# Altium footprint library diode.PcbLib: 13 footprints
Each footprint in its own frame and in the unit in brackets; x right, y up, seen from the top. Pads: shape width x height; smd on the part's side, far side on the other; paste and mask are expansions set on the pad; w line width, h text height; cw(c..) or ccw(c..) is an arc to the next point about the centre after c.
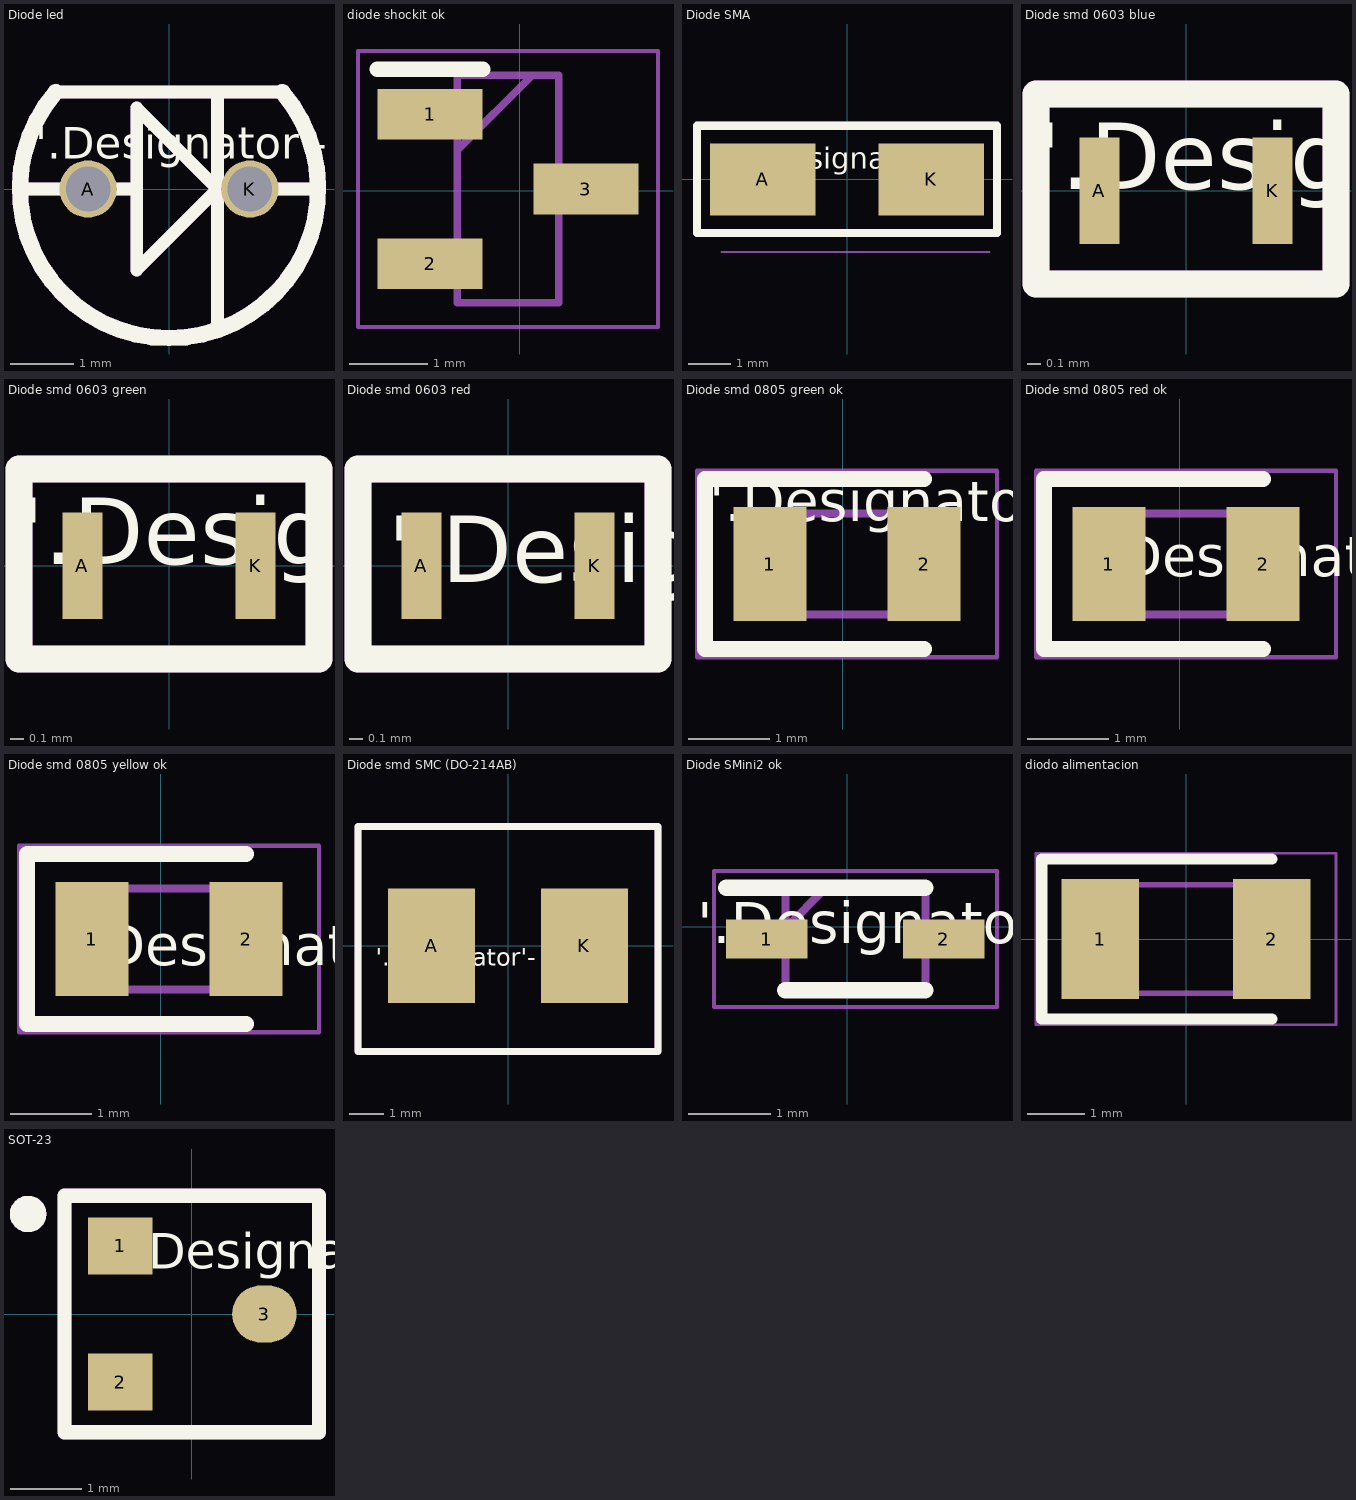
[diagram p0: the footprints below, top view; thin cyan lines are the x and y axes]

## Diode led [mm]
pads (2):
  round 0.9 hole 0.7: A(-1.27,0) K(1.27,0)
Top Overlay:
  lines w0.2: -2.355,0 -0.508,0 ; -1.778,1.524 1.778,1.524 ; 0.762,-2.159 0.762,1.397 ; 2.355,0 0.762,0 ; 0.762,0 -0.508,1.27 -0.508,-1.27 0.762,0
  lines w0.254: -1.778,1.524 ccw(c0,0) 1.778,1.524
  text "'.Designator'-" at -2.1,0.475 h0.5
Mechanical 29 (Mech29):
  lines w0.2: -1.778,1.524 1.778,1.524 ; -0.508,-1.27 0.762,0 ; -0.508,-1.27 -0.508,1.27 ; -0.508,-1.27 0.762,0 ; -0.508,-1.27 -0.508,1.27 ; -0.508,1.27 0.762,0 ; -0.508,1.27 0.762,0 ; 0.762,0 2.355,0 0.762,0 ; -2.355,0 -0.508,0 -2.355,0 ; 0.762,-2.159 0.762,1.397 0.762,-2.159
  lines w0.254: -1.778,1.524 ccw(c0,0) 1.778,1.524
3D body "REDLED 5mm.step": height 5.02, standoff -3.54, extent -1.994,-2.032 1.994,1.46

## diode shockit ok [mm]
pads (3):
  rect 1.35x0.65 smd: 1(-1.15,0.985) 2(-1.15,-0.935) 3(0.85,0.025)
Top Overlay:
  lines w0.2: -1.825,1.56 -0.475,1.56
Mechanical 13:
  lines w0.1: -0.8,0.525 0.16,1.485 ; -0.8,-1.435 0.5,-1.435 0.5,1.485 -0.8,1.485 -0.8,-1.435
Mechanical 15:
  lines w0.05: -2.075,-1.745 1.775,-1.745 1.775,1.795 -2.075,1.795 -2.075,-1.745
3D body "diodo sot 23-3.stp": height 1.01, standoff -0.03, extent -1.325,-1.425 1.075,1.475

## Diode SMA [mm]
pads (2):
  rect 2.5x1.7 smd: A(-2,0) K(2,0)
Top Overlay:
  lines w0.2: -3.556,-1.27 -3.556,1.27 3.556,1.27 3.556,-1.27 -3.556,-1.27
  text "'.Designator'-" at -2.286,0.254 h0.5
Mechanical 15:
  lines w0.05: -2.975,-1.725 3.375,-1.725
Mechanical 29 (Mech29):
  lines w0.2: -3.556,-1.27 3.556,-1.27 3.556,1.27 -3.556,1.27 -3.556,-1.27
3D body "diode (SMA).step": height 1.96, standoff 0.01, extent -2.555,-1.35 2.555,1.35

## Diode smd 0603 blue [mm]
pads (2):
  rect 0.3x0.8 smd: A(-0.65,0) K(0.65,0)
Top Overlay:
  lines w0.2: -1.125,-0.7 -1.125,0.725 1.125,0.725 1.125,-0.7 -1.125,-0.7
  text "'.Designator'-" at -1.125,0.012 h0.5
Mechanical 29 (Mech29):
  lines w0.2: -1.125,-0.7 1.125,-0.7 1.125,0.725 -1.125,0.725 -1.125,-0.7
3D body "LED0603_BLUE.STEP": height 0.9, standoff 0, extent -0.85,-0.45 0.85,0.45

## Diode smd 0603 green [mm]
pads (2):
  rect 0.3x0.8 smd: A(-0.65,0) K(0.65,0)
Top Overlay:
  lines w0.2: -1.125,-0.7 1.125,-0.7 1.125,0.725 -1.125,0.725 -1.125,-0.7
  text "'.Designator'-" at -1.125,0.012 h0.5
Mechanical 29 (Mech29):
  lines w0.2: -1.125,-0.7 -1.125,0.725 1.125,0.725 1.125,-0.7 -1.125,-0.7
3D body "LED_0603_G.STEP": height 0.6, standoff 0, extent -0.8,-0.4 0.8,0.4

## Diode smd 0603 red [mm]
pads (2):
  rect 0.3x0.8 smd: A(-0.65,0) K(0.65,0)
Top Overlay:
  lines w0.2: -1.125,-0.7 -1.125,0.725 1.125,0.725 1.125,-0.7 -1.125,-0.7
  text "'.Designator'-" at -0.9,-0.125 h0.5
Mechanical 29 (Mech29):
  lines w0.2: -1.125,-0.7 1.125,-0.7 1.125,0.725 -1.125,0.725 -1.125,-0.7
3D body "led0603_RED-1.STEP": height 0.9, standoff 0, extent -0.85,-0.45 0.85,0.45

## Diode smd 0805 green ok [mm]
pads (2):
  rect 0.9x1.4 smd: 1(-0.9,-2.35) 2(1,-2.35)
Top Overlay:
  lines w0.2: 1,-3.4 -1.7,-3.4 -1.7,-1.3 1,-1.3
  text "'.Designator'-" at -1.65,-1.825 h0.5
Mechanical 13:
  lines w0.1: -0.95,-2.142 -0.533,-1.725 ; -0.95,-2.975 1.05,-2.975 1.05,-1.725 -0.95,-1.725 -0.95,-2.975
Mechanical 15:
  lines w0.05: -1.8,-3.5 1.9,-3.5 1.9,-1.2 -1.8,-1.2 -1.8,-3.5
3D body "0805LED-GREEN.step": height 1.11, standoff 0, extent -1,-2.95 1,-1.7

## Diode smd 0805 red ok [mm]
pads (2):
  rect 0.9x1.4 smd: 1(-0.875,-2.4) 2(1.025,-2.4)
Top Overlay:
  lines w0.2: 1.025,-3.45 -1.675,-3.45 -1.675,-1.35 1.025,-1.35
  text "'.Designator'-" at -1.15,-2.55 h0.5
Mechanical 13:
  lines w0.1: -0.925,-2.192 -0.508,-1.775 ; -0.925,-3.025 1.075,-3.025 1.075,-1.775 -0.925,-1.775 -0.925,-3.025
Mechanical 15:
  lines w0.05: -1.775,-3.55 1.925,-3.55 1.925,-1.25 -1.775,-1.25 -1.775,-3.55
3D body "0805LED-red.step": height 1.11, standoff 0, extent -0.95,-2.975 1.05,-1.725

## Diode smd 0805 yellow ok [mm]
pads (2):
  rect 0.9x1.4 smd: 1(-0.85,-2.4) 2(1.05,-2.4)
Top Overlay:
  lines w0.2: 1.05,-3.45 -1.65,-3.45 -1.65,-1.35 1.05,-1.35
  text "'.Designator'-" at -1.125,-2.725 h0.5
Mechanical 13:
  lines w0.1: -0.9,-2.192 -0.483,-1.775 ; -0.9,-3.025 1.1,-3.025 1.1,-1.775 -0.9,-1.775 -0.9,-3.025
Mechanical 15:
  lines w0.05: -1.75,-3.55 1.95,-3.55 1.95,-1.25 -1.75,-1.25 -1.75,-3.55

## Diode smd SMC (DO-214AB) [mm]
pads (2):
  rect 2.5x3.3 smd: A(-2.2,0) K(2.2,0)
Top Overlay:
  lines w0.2: -4.318,-3.048 -4.318,3.429 4.318,3.429 4.318,-3.048 -4.318,-3.048
  text "'.Designator'-" at -3.8,-0.575 h0.5
Mechanical 29 (Mech29):
  lines w0.2: -4.318,-3.048 4.318,-3.048 4.318,3.429 -4.318,3.429 -4.318,-3.048
3D body "DO-214AB SMC.step": height 2.32, standoff 0.01, extent -3.975,-2.696 3.975,3.204

## Diode SMini2 ok [mm]
pads (2):
  rect 0.99x0.47 smd: 1(-0.975,-0.15) 2(1.175,-0.15)
Top Overlay:
  lines w0.2: -1.47,0.475 0.95,0.475 ; -0.75,-0.775 0.95,-0.775
  text "'.Designator'-" at -1.825,-0.2 h0.5
Mechanical 13:
  lines w0.1: -0.75,-0.02 -0.255,0.475 ; -0.75,-0.775 0.95,-0.775 0.95,0.475 -0.75,0.475 -0.75,-0.775
Mechanical 15:
  lines w0.05: -1.62,-0.975 1.82,-0.975 1.82,0.675 -1.62,0.675 -1.62,-0.975
3D body "DB2J20900L.stp": height 0.8, standoff 0, extent -1.15,-0.775 1.35,0.475

## diodo alimentacion [mm]
pads (2):
  rect 1.35x2.1 smd: 1(-1.5,0) 2(1.5,0)
Top Overlay:
  lines w0.2: 1.5,-1.4 -2.525,-1.4 -2.525,1.4 1.5,1.4
Mechanical 13:
  lines w0.1: -1.7,0.275 -1.025,0.95 ; -1.7,-0.95 1.7,-0.95 1.7,0.95 -1.7,0.95 -1.7,-0.95
Mechanical 15:
  lines w0.05: -2.625,-1.5 2.625,-1.5 2.625,1.5 -2.625,1.5 -2.625,-1.5
3D body "SD1206S020S1R0.stp": height 1.16, standoff 0, extent -1.7,-0.95 1.7,0.95

## SOT-23 [mm]
pads (3):
  rect 0.9x0.8 smd: 1(-1,0.95) 2(-1,-0.95)
  oval 0.9x0.8 smd: 3(1.016,0)
Top Overlay:
  circle w0.254: c-2.286,1.397 r0.127
  lines w0.2: -1.778,-1.651 -1.778,1.651 1.778,1.651 1.778,-1.651 -1.778,-1.651
  text "'.Designator'-" at -1.016,0.635 h0.5
Mechanical 29 (Mech29):
  circle w0.254: c-2.286,1.397 r0.127
  lines w0.2: -1.778,-1.651 1.778,-1.651 1.778,1.651 -1.778,1.651 -1.778,-1.651
3D body "diodo sot 23-3.stp": height 1.01, standoff -0.03, extent -1.2,-1.45 1.2,1.45